# Altium schematic symbol library ADS1147IPW.Schlib: 1 symbol
Pins are listed as number, name and electrical type; pins without a type are passive.

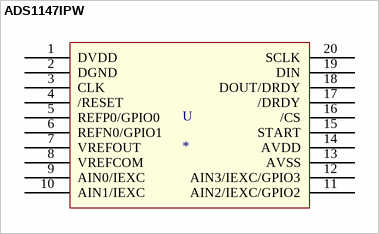
[diagram p0: symbol ADS1147IPW]

## ADS1147IPW
designator U
16-bit 3 channel ADC
pins: 1 DVDD, 2 DGND, 3 CLK, 4 /RESET, 5 REFP0/GPIO0, 6 REFN0/GPIO1, 7 VREFOUT, 8 VREFCOM, 9 AIN0/IEXC, 10 AIN1/IEXC, 11 AIN2/IEXC/GPIO2, 12 AIN3/IEXC/GPIO3, 13 AVSS, 14 AVDD, 15 START, 16 /CS, 17 /DRDY, 18 DOUT/DRDY, 19 DIN, 20 SCLK